# EAGLE library part LED_JUMPER (library Parts)
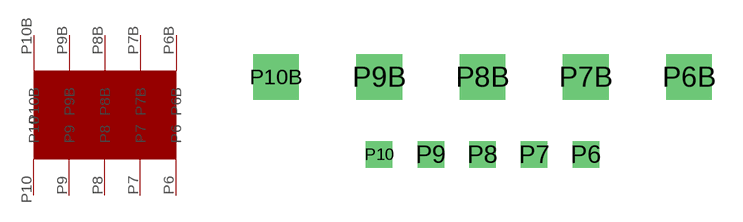
[diagram p4: symbol with the pads of LED_JUMPER; footprint LED_JUMPER]

Designator prefix -

## LED_JUMPER  [LED_JUMPER]
P6  P6
P6B  P6B
P7  P7
P7B  P7B
P8  P8
P8B  P8B
P9  P9
P9B  P9B
P10  P10
P10B  P10B

## Footprint LED_JUMPER (pad centres in mm)
drill 0.8 square: P6 15.24,-3.81; P7 12.7,-3.81; P8 10.16,-3.81; P9 7.62,-3.81; P10 5.08,-3.81
drill 1.5 square: P6B 20.32,0; P7B 15.24,0; P8B 10.16,0; P9B 5.08,0; P10B 0,0